# Altium schematic symbol library Schlib1.SchLib: 64 symbols
Pins are listed as number, name and electrical type; pins without a type are passive.

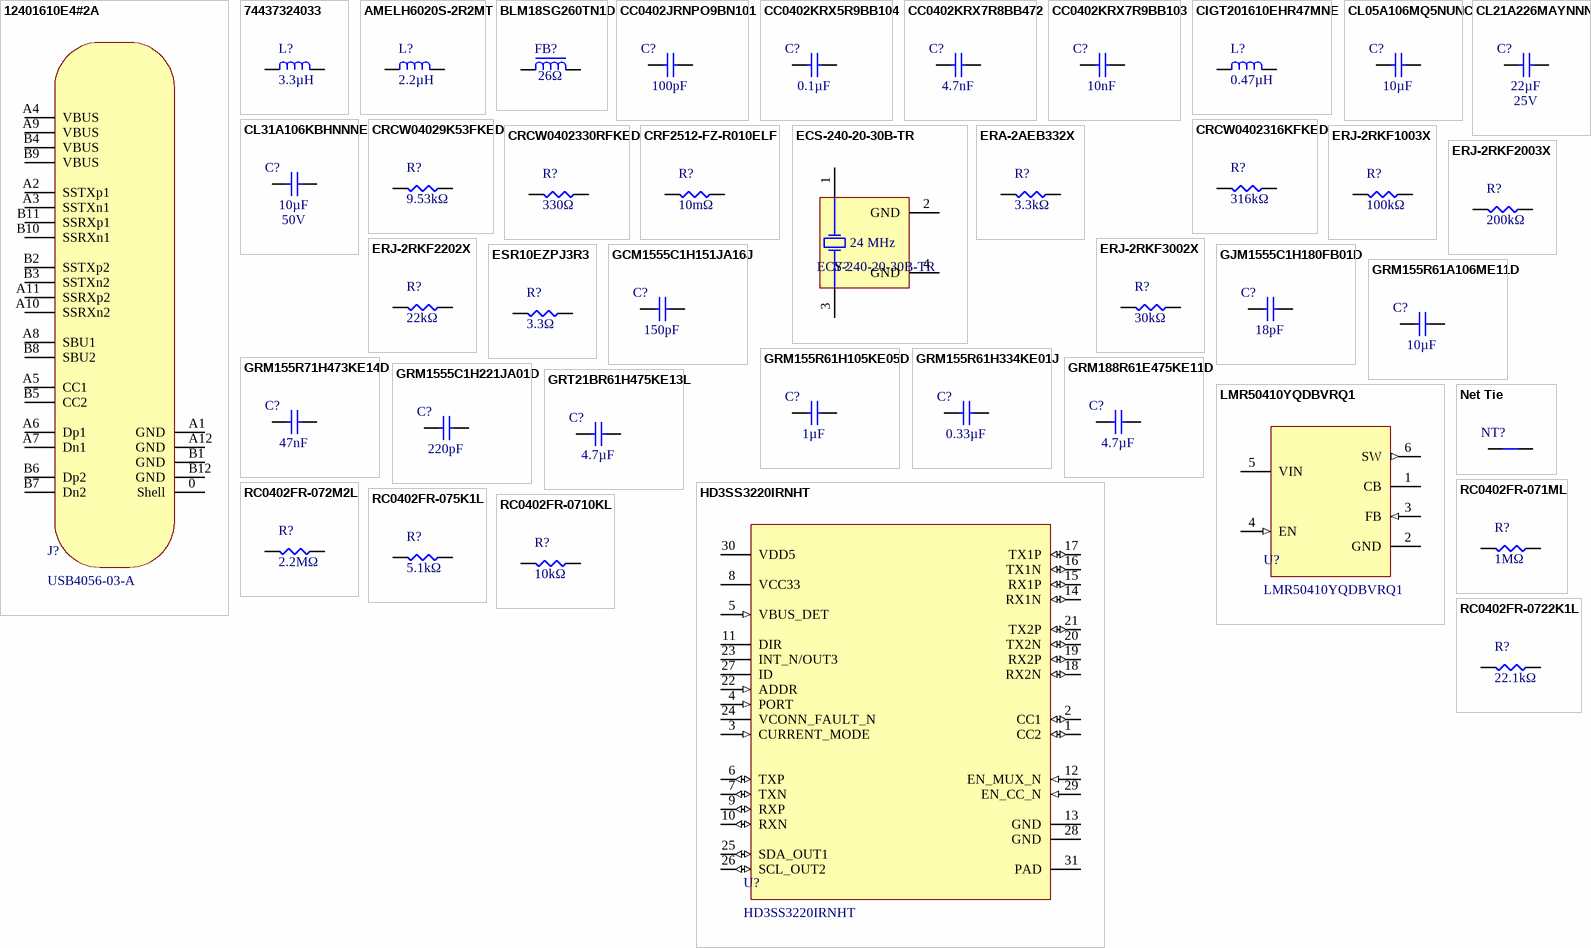
[diagram p0: symbols 12401610E4#2A to RC0402FR-0722K1L]

## 12401610E4#2A
designator J?, comment USB4056-03-A
USB-C (USB TYPE-C) USB 3.2 Gen 2 (USB 3.1 Gen 2, Superspeed + (USB 3.1)) Receptacle Connector 24 Position Surface Mount, Right Angle; Through Hole; Manufacturer: Amphenol ICC (Commercial Products); Manufacturer Product Number: 12401610E4#2A; Voltage: 100VDC; Supplier: DigiKey; Supplier Part Number: 12401610E4#2ACT-ND; Datasheet: https://cdn.amphenol-cs.com/media/wysiwyg/files/drawing/c12401610_c.pdf; Standards: USB 3.2 Gen 2; Operating Temperature: -40°C ~ 85°C
footprint 12401610E42A_AMP (Female USB-C Header)
pins: 0 Shell "USB-C Connector Shell (GND)", A1 GND, A2 SSTXp1, A3 SSTXn1, A4 VBUS, A5 CC1, A6 Dp1, A7 Dn1, A8 SBU1, A9 VBUS, A10 SSRXn2, A11 SSRXp2, A12 GND, B1 GND, B2 SSTXp2, B3 SSTXn2, B4 VBUS, B5 CC2, B6 Dp2, B7 Dn2, B8 SBU2, B9 VBUS, B10 SSRXn1, B11 SSRXp1, B12 GND

## 74437324033
designator L?  value 3.3µH  (hidden comment: 74437324033)
3.3 µH Shielded Molded Inductor 2.5 A 76mOhm Max 2-SMD; Manufacturer 1: Würth Elektronik; Current Rating: 2.5A; Current - Saturation (Isat): 5.45A; Manufacturer Part Number 1: 74437324033; Supplier Part Number 1: 732-3343-1-ND; Supplier 1: Digi-Key
footprint 2-SMD
pins: 1, 2

## AMELH6020S-2R2MT
designator L?  value 2.2µH  (hidden comment: AMELH6020S-2R2MT)
2.2 µH Shielded Molded Inductor 11.5 A 14.4mOhm Max Nonstandard; Manufacturer 1: Abracon LLC; Current Rating: 11.5A; Current - Saturation (Isat): 10A; Manufacturer Part Number 1: AMELH6020S-2R2MT; Supplier Part Number 1: 535-AMELH6020S-2R2MTCT-ND; Supplier 1: Digi-Key
footprint AMELH6020S-2R2MT
pins: 1, 2

## BLM18SG260TN1D
designator FB?  value 26Ω  (hidden comment: BLM18SG260TN1D)
26 Ohms @ 100 MHz 1 Power Line Ferrite Bead 0603 (1608 Metric) 6A 7mOhm; Manufacturer 1: Murata Electronics; Manufacturer Part Number 1: BLM18SG260TN1D; Supplier Part Number 1: 490-3995-1-ND; Supplier 1: Digi-Key; Current Rating: 6A
footprint BLM18SG260TN1D
pins: 1, 2

## CC0402JRNPO9BN101
designator C?  value 100pF  (hidden comment: CC0402JRNPO9BN101)
100 pF ±5% 50V Ceramic Capacitor C0G, NP0 0402 (1005 Metric); Temperature Coefficient: C0G, NP0; Package: 0402 (1005 Metric); Voltage: 50V
footprint CAP0402 (Chip Capacitor, Body 1x0.5mm, Height 0.35mm, IPC Medium Density)
pins: 1, 2

## CC0402KRX5R9BB104
designator C?  value 0.1µF  (hidden comment: CC0402KRX5R9BB104)
0.1 µF ±10% 50V Ceramic Capacitor X5R 0402 (1005 Metric); Temperature Coefficient: X5R; Package: 0402 (1005 Metric); Voltage: 50V
footprint CAP0402 (Chip Capacitor, Body 1x0.5mm, Height 0.35mm, IPC Medium Density)
pins: 1, 2

## CC0402KRX7R8BB472
designator C?  value 4.7nF  (hidden comment: CC0402KRX7R8BB472)
4700 pF ±10% 25V Ceramic Capacitor X7R 0402 (1005 Metric); Temperature Coefficient: X7R; Package: 0402 (1005 Metric); Voltage: 25V
footprint CAP0402 (Chip Capacitor, Body 1x0.5mm, Height 0.35mm, IPC Medium Density)
pins: 1, 2

## CC0402KRX7R9BB103
designator C?  value 10nF  (hidden comment: CC0402KRX7R9BB103)
10000 pF ±10% 50V Ceramic Capacitor X7R 0402 (1005 Metric); Temperature Coefficient: X7R; Package: 0402 (1005 Metric); Voltage: 50V
footprint CAP0402 (Chip Capacitor, Body 1x0.5mm, Height 0.35mm, IPC Medium Density)
pins: 1, 2

## CIGT201610EHR47MNE
designator L?, comment value 0.47µH  (hidden comment: 74437324033)
470 nH Shielded Thin Film Inductor 4.8 A 22mOhm Max 0806 (2016 Metric); Manufacturer 1: Samsung Electro-Mechanics; Manufacturer Part Number 1: CIGT201610EHR47MNE; Current Rating: 4.8A; Current - Saturation (Isat): 5.9A; Supplier Part Number 1: 1276-6902-1-ND; Supplier 1: Digi-Key
footprint IND0806
pins: 1, 2

## CL05A106MQ5NUNC
designator C?  value 10µF  (hidden comment: CL05A106MQ5NUNC)
10 µF ±20% 6.3V Ceramic Capacitor X5R 0402 (1005 Metric); Temperature Coefficient: C0G, NP0; Package: 0402 (1005 Metric); Voltage: 6.3V
footprint CAP0402 (Chip Capacitor, Body 1x0.5mm, Height 0.35mm, IPC Medium Density)
pins: 1, 2

## CL21A226MAYNNNE
designator C?  value 22µF  Voltage: 25V  (hidden comment: CL21A226MAYNNNE)
22 µF ±20% 25V Ceramic Capacitor X5R 0805 (2012 Metric); Temperature Coefficient: X5R; Package: 0805 (2012 Metric)
footprint CAP0805 (Chip Capacitor, Body 2.0x1.2mm, Height 0.45mm, IPC Medium Density)
pins: 1, 2

## CL31A106KBHNNNE
designator C?  value 10µF  Voltage: 50V  (hidden comment: CL31A106KBHNNNE)
10 µF ±10% 50V Ceramic Capacitor X5R 1206 (3216 Metric); Temperature Coefficient: X5R; Package: 1206 (3216 Metric)
footprint CAP1206 (Chip Capacitor, Body 3.2x1.6mm, Height 0.55mm, IPC Medium Density)
pins: 1, 2

## CRCW04029K53FKED
designator R?  value 9.53kΩ  (hidden comment: CRCW04029K53FKED)
9.53 kOhms ±1% 0.1W, 1/10W Chip Resistor 0402 (1005 Metric) Automotive AEC-Q200 Thick Film; Manufacturer 1: Vishay Dale; Manufacturer Part Number 1: CRCW04029K53FKED; Supplier Part Number 1: 541-9.53KLCT-ND; Supplier 1: Digi-Key; Power Rating: 1/10W
footprint RES0402 (Chip Resistor, Body 1x0.5mm, IPC Medium Density)
pins: 1, 2

## CRCW0402316KFKED
designator R?  value 316kΩ  (hidden comment: CRCW0402316KFKED)
316 kOhms ±1% 0.1W, 1/10W Chip Resistor 0402 (1005 Metric) Automotive AEC-Q200 Thick Film; Manufacturer 1: Vishay Dale; Manufacturer Part Number 1: CRCW0402316KFKED; Supplier Part Number 1: 541-316KLCT-ND; Supplier 1: Digi-Key; Power Rating: 1/10W
footprint RES0402 (Chip Resistor, Body 1x0.5mm, IPC Medium Density)
pins: 1, 2

## CRCW0402330RFKED
designator R?  value 330Ω  (hidden comment: CRCW0402330RFKED)
330 Ohms ±1% 0.1W, 1/10W Chip Resistor 0402 (1005 Metric) Automotive AEC-Q200 Thick Film; Manufacturer 1: Vishay Dale; Manufacturer Part Number 1: CRCW0402330RFKED; Supplier Part Number 1: 541-330LCT-ND; Supplier 1: Digi-Key; Power Rating: 1/10W
footprint RES0402 (Chip Resistor, Body 1x0.5mm, IPC Medium Density)
pins: 1, 2

## CRF2512-FZ-R010ELF
designator R?  value 10mΩ  (hidden comment: CRF2512-FZ-R010ELF)
10 mOhms ±1% 2W Chip Resistor 2512 (6332 Metric) Automotive AEC-Q200, Current Sense, Moisture Resistant Metal Element; Manufacturer 1: Bourns Inc.; Manufacturer Part Number 1: CRF2512-FZ-R010ELF; Supplier Part Number 1: CRF2512-FZ-R010ELFCT-ND; Supplier 1: Digi-Key; Power Rating: 2W
footprint RES2512
pins: 1, 2

## ECS-240-20-30B-TR
designator Y?  value 24 MHz
24 MHz ±30ppm Crystal 20pF 30 Ohms 4-SMD, No Lead; Manufacturer 1: ECS Inc.; ESR (Equivalent Series Resistance): 30Ω; Manufacturer Part Number 1: ECS-240-20-30B-TR; Supplier Part Number 1: XC1122CT-ND; Supplier 1: Digi-Key; Load Capacitance: 20pF
footprint ECS-240-20-30B-TR
pins: 1, 2 GND, 3, 4 GND

## ERA-2AEB332X
designator R?  value 3.3kΩ  (hidden comment: ERA-2AEB332X)
3.3 kOhms ±0.1% 0.063W, 1/16W Chip Resistor 0402 (1005 Metric) Automotive AEC-Q200 Thin Film; Manufacturer 1: Panasonic Electronic Components; Manufacturer Part Number 1: ERA-2AEB332X; Supplier Part Number 1: P3.3KDCCT-ND; Supplier 1: Digi-Key; Power Rating: 1/16W
footprint RES0402 (Chip Resistor, Body 1x0.5mm, IPC Medium Density)
pins: 1, 2

## ERJ-2RKF1003X
designator R?  value 100kΩ  (hidden comment: ERJ-2RKF1003X)
100 kOhms ±1% 0.1W, 1/10W Chip Resistor 0402 (1005 Metric) Automotive AEC-Q200 Thick Film; Manufacturer 1: Panasonic Electronic Components; Manufacturer Part Number 1: ERJ-2RKF1003X; Supplier Part Number 1: P100KLCT-ND; Supplier 1: Digi-Key; Power Rating: 1/10W
footprint RES0402 (Chip Resistor, Body 1x0.5mm, IPC Medium Density)
pins: 1, 2

## ERJ-2RKF2003X
designator R?, comment value 200kΩ  (hidden comment: ERJ-2RKF3002X)
200 kOhms ±1% 0.1W, 1/10W Chip Resistor 0402 (1005 Metric) Automotive AEC-Q200 Thick Film; Manufacturer 1: Panasonic Electronic Components; Manufacturer Part Number 1: ERJ-2RKF2003X; Supplier Part Number 1: P200KLCT-ND; Supplier 1: Digi-Key; Power Rating: 1/10W
footprint RES0402 (Chip Resistor, Body 1x0.5mm, IPC Medium Density)
pins: 1, 2

## ERJ-2RKF2202X
designator R?  value 22kΩ  (hidden comment: ERJ-2RKF2202X)
22 kOhms ±1% 0.1W, 1/10W Chip Resistor 0402 (1005 Metric) Automotive AEC-Q200 Thick Film; Manufacturer 1: Panasonic Electronic Components; Manufacturer Part Number 1: ERJ-2RKF2202X; Supplier Part Number 1: P22.0KLCT-ND; Supplier 1: Digi-Key; Power Rating: 1/10W
footprint RES0402 (Chip Resistor, Body 1x0.5mm, IPC Medium Density)
pins: 1, 2

## ERJ-2RKF3002X
designator R?  value 30kΩ  (hidden comment: ERJ-2RKF3002X)
30 kOhms ±1% 0.1W, 1/10W Chip Resistor 0402 (1005 Metric) Automotive AEC-Q200 Thick Film; Manufacturer 1: Panasonic Electronic Components; Manufacturer Part Number 1: ERJ-2RKF3002X; Supplier Part Number 1: P30.0KLCT-ND; Supplier 1: Digi-Key; Power Rating: 1/10W
footprint RES0402 (Chip Resistor, Body 1x0.5mm, IPC Medium Density)
pins: 1, 2

## ESR10EZPJ3R3
designator R?  value 3.3Ω  (hidden comment: ESR10EZPJ3R3)
3.3 Ohms ±5% 0.5W, 1/2W Chip Resistor 0805 (2012 Metric) Automotive AEC-Q200, Pulse Withstanding Thick Film; Manufacturer 1: Rohm Semiconductor; Manufacturer Part Number 1: ESR10EZPJ3R3; Supplier Part Number 1: RHM3.3KCT-ND; Supplier 1: Digi-Key; Power Rating: 1/2W
footprint RES0402 (Chip Resistor, Body 1x0.5mm, IPC Medium Density)
pins: 1, 2

## GCM1555C1H151JA16J
designator C?  value 150pF  (hidden comment: GCM1555C1H151JA16J)
150 pF ±5% 50V Ceramic Capacitor C0G, NP0 0402 (1005 Metric); Temperature Coefficient: C0G, NP0; Package: 0402 (1005 Metric); Voltage: 50V
footprint CAP0402 (Chip Capacitor, Body 1x0.5mm, Height 0.35mm, IPC Medium Density)
pins: 1, 2

## GJM1555C1H180FB01D
designator C?  value 18pF  (hidden comment: GJM1555C1H180FB01D)
18 pF ±1% 50V Ceramic Capacitor C0G, NP0 0402 (1005 Metric); Temperature Coefficient: C0G, NP0; Package: 0402 (1005 Metric); Voltage: 50V
footprint CAP0402 (Chip Capacitor, Body 1x0.5mm, Height 0.35mm, IPC Medium Density)
pins: 1, 2

## GRM155R61A106ME11D
designator C?, comment value 10µF  (hidden comment: GRM1555C1H221JA01D)
10 µF ±20% 10V Ceramic Capacitor X5R 0402 (1005 Metric); Temperature Coefficient: X5R; Package: 0402 (1005 Metric); Voltage: 10V
footprint CAP0402 (Chip Capacitor, Body 1x0.5mm, Height 0.35mm, IPC Medium Density)
pins: 1, 2

## GRM155R61H105KE05D
designator C?  value 1µF  (hidden comment: GRM155R61H105KE05D)
1 µF ±10% 50V Ceramic Capacitor X5R 0402 (1005 Metric); Temperature Coefficient: X5R; Package: 0402 (1005 Metric); Voltage: 50V
footprint CAP0402 (Chip Capacitor, Body 1x0.5mm, Height 0.35mm, IPC Medium Density)
pins: 1, 2

## GRM155R61H334KE01J
designator C?  value 0.33µF  (hidden comment: GRM155R61H334KE01J)
0.33 µF ±10% 50V Ceramic Capacitor X5R 0402 (1005 Metric); Temperature Coefficient: X5R; Package: 0402 (1005 Metric); Voltage: 50V
footprint CAP0402 (Chip Capacitor, Body 1x0.5mm, Height 0.35mm, IPC Medium Density)
pins: 1, 2

## GRM155R71H473KE14D
designator C?  value 47nF  (hidden comment: GRM155R71H473KE14D)
0.047 µF ±10% 50V Ceramic Capacitor X7R 0402 (1005 Metric); Temperature Coefficient: X7R; Package: 0402 (1005 Metric); Voltage: 50V
footprint CAP0402 (Chip Capacitor, Body 1x0.5mm, Height 0.35mm, IPC Medium Density)
pins: 1, 2

## GRM188R61E475KE11D
designator C?, comment value 4.7µF  (hidden comment: GRT21BR61H475KE13L)
4.7 µF ±10% 25V Ceramic Capacitor X5R 0603 (1608 Metric); Temperature Coefficient: X5R; Package: 0603 (1608 Metric); Voltage: 25V
footprint CAP0603
pins: 1, 2

## GRM1555C1H221JA01D
designator C?  value 220pF  (hidden comment: GRM1555C1H221JA01D)
220 pF ±5% 50V Ceramic Capacitor C0G, NP0 0402 (1005 Metric); Temperature Coefficient: C0G, NP0; Package: 0402 (1005 Metric); Voltage: 50V
footprint CAP0402 (Chip Capacitor, Body 1x0.5mm, Height 0.35mm, IPC Medium Density)
pins: 1, 2

## GRT21BR61H475KE13L
designator C?  value 4.7µF  (hidden comment: GRT21BR61H475KE13L)
4.7 µF ±10% 50V Ceramic Capacitor X5R 0805 (2012 Metric); Temperature Coefficient: X5R; Package: 0805 (2012 Metric); Voltage: 50V
footprint CAP0805 (Chip Capacitor, Body 2.0x1.2mm, Height 0.45mm, IPC Medium Density)
pins: 1, 2

## HD3SS3220IRNHT
designator U?
USB, Type-C Controller PMIC 30-WQFN (4.5x2.5); Manufacturer: Texas Instruments; Manufacturer Product Number: HD3SS3220IRNHT; Supplier: DigiKey; Supplier Part Number: 296-43694-1-ND; Datasheet: https://www.ti.com/lit/ds/symlink/hd3ss3220.pdf?HQS=dis-dk-null-digikeymode-dsf-pf-null-wwe&ts=1772376564629&ref_url=https%253A%252F%252Fwww.ti.com%252Fgeneral%252Fdocs%252Fsuppproductinfo.tsp%253FdistId%253D10%2526gotoUrl%253Dhttps%253A%252F%252Fwww.ti.com%252Flit%252Fgpn%252Fhd3ss3220; Operating Temperature: -40°C ~ 85°C
footprint 30-WFQFN Exposed Pad
pins: 1 CC2 (io), 2 CC1 (io), 3 CURRENT_MODE (in), 4 PORT (in), 5 VBUS_DET (in), 6 TXP (io), 7 TXN (io), 8 VCC33 (power), 9 RXP (io), 10 RXN (io), 11 DIR (oc), 12 EN_MUX_N (in), 13 GND (power), 14 RX1N (io), 15 RX1P (io), 16 TX1N (io), 17 TX1P (io), 18 RX2N (io), 19 RX2P (io), 20 TX2N (io), 21 TX2P (io), 22 ADDR (in), 23 INT_N/OUT3 (oc), 24 VCONN_FAULT_N (oc), 25 SDA_OUT1 (io), 26 SCL_OUT2 (io), 27 ID (oc), 28 GND (power), 29 EN_CC_N (in), 30 VDD5 (power), 31 PAD (power)

## LMR50410YQDBVRQ1
designator U?
Buck Switching Regulator IC Positive Adjustable 1V 1 Output 1A SOT-23-6; Manufacturer: Texas Instruments; Manufacturer Product Number: LMR50410YQDBVRQ1; Supplier: DigiKey; Supplier Part Number: 296-LMR50410YQDBVRQ1CT-ND; Datasheet: https://www.ti.com/lit/ds/symlink/lmr50410-q1.pdf?ts=1770259846623&ref_url=https%253A%252F%252Fwww.ti.com%252Fproduct%252FLMR50410-Q1%252Fpart-details%252FLMR50410YQDBVRQ1; Operating Temperature: -40°C ~ 150°C
footprint SOT-23-6
pins: 1 CB, 2 GND, 3 FB (in), 4 EN (in), 5 VIN, 6 SW (out)

## Net Tie
designator NT?  (value not drawn)
footprint Net Tie
pins: 1, 2

## RC0402FR-071ML
designator R?  value 1MΩ  (hidden comment: RC0402FR-071ML)
1 MOhms ±1% 0.063W, 1/16W Chip Resistor 0402 (1005 Metric) Moisture Resistant Thick Film; Manufacturer 1: YAGEO; Manufacturer Part Number 1: RC0402FR-071ML; Supplier Part Number 1: 311-1.00MLRCT-ND; Supplier 1: Digi-Key; Power Rating: 1/16W
footprint RES0402 (Chip Resistor, Body 1x0.5mm, IPC Medium Density)
pins: 1, 2

## RC0402FR-072M2L
designator R?  value 2.2MΩ  (hidden comment: RC0402FR-072M2L)
2.2 MOhms ±1% 0.063W, 1/16W Chip Resistor 0402 (1005 Metric) Moisture Resistant Thick Film; Manufacturer 1: YAGEO; Manufacturer Part Number 1: RC0402FR-072M2L; Supplier Part Number 1: 13-RC0402FR-072M2LCT-ND; Supplier 1: Digi-Key; Power Rating: 1/16W
footprint RES0402 (Chip Resistor, Body 1x0.5mm, IPC Medium Density)
pins: 1, 2

## RC0402FR-075K1L
designator R?  value 5.1kΩ  (hidden comment: RC0402FR-075K1L)
5.1 kOhms ±1% 0.063W, 1/16W Chip Resistor 0402 (1005 Metric) Moisture Resistant Thick Film; Manufacturer 1: YAGEO; Manufacturer Part Number 1: RC0402FR-075K1L; Supplier Part Number 1: 311-5.10KLRCT-ND; Supplier 1: Digi-Key; Power Rating: 1/16W
footprint RES0402 (Chip Resistor, Body 1x0.5mm, IPC Medium Density)
pins: 1, 2

## RC0402FR-0710KL
designator R?  value 10kΩ  (hidden comment: RC0402FR-0710KL)
10 kOhms ±1% 0.063W, 1/16W Chip Resistor 0402 (1005 Metric) Moisture Resistant Thick Film; Manufacturer 1: YAGEO; Manufacturer Part Number 1: RC0402FR-0710KL; Supplier Part Number 1: 311-10.0KLRCT-ND; Supplier 1: Digi-Key; Power Rating: 1/16W
footprint RES0402 (Chip Resistor, Body 1x0.5mm, IPC Medium Density)
pins: 1, 2

## RC0402FR-0722K1L
designator R?  value 22.1kΩ  (hidden comment: RC0402FR-0722K1L)
22.1 kOhms ±1% 0.063W, 1/16W Chip Resistor 0402 (1005 Metric) Moisture Resistant Thick Film; Manufacturer 1: YAGEO; Manufacturer Part Number 1: RC0402FR-0722K1L; Supplier Part Number 1: 311-22.1KLRCT-ND; Supplier 1: Digi-Key; Power Rating: 1/16W
footprint RES0402 (Chip Resistor, Body 1x0.5mm, IPC Medium Density)
pins: 1, 2

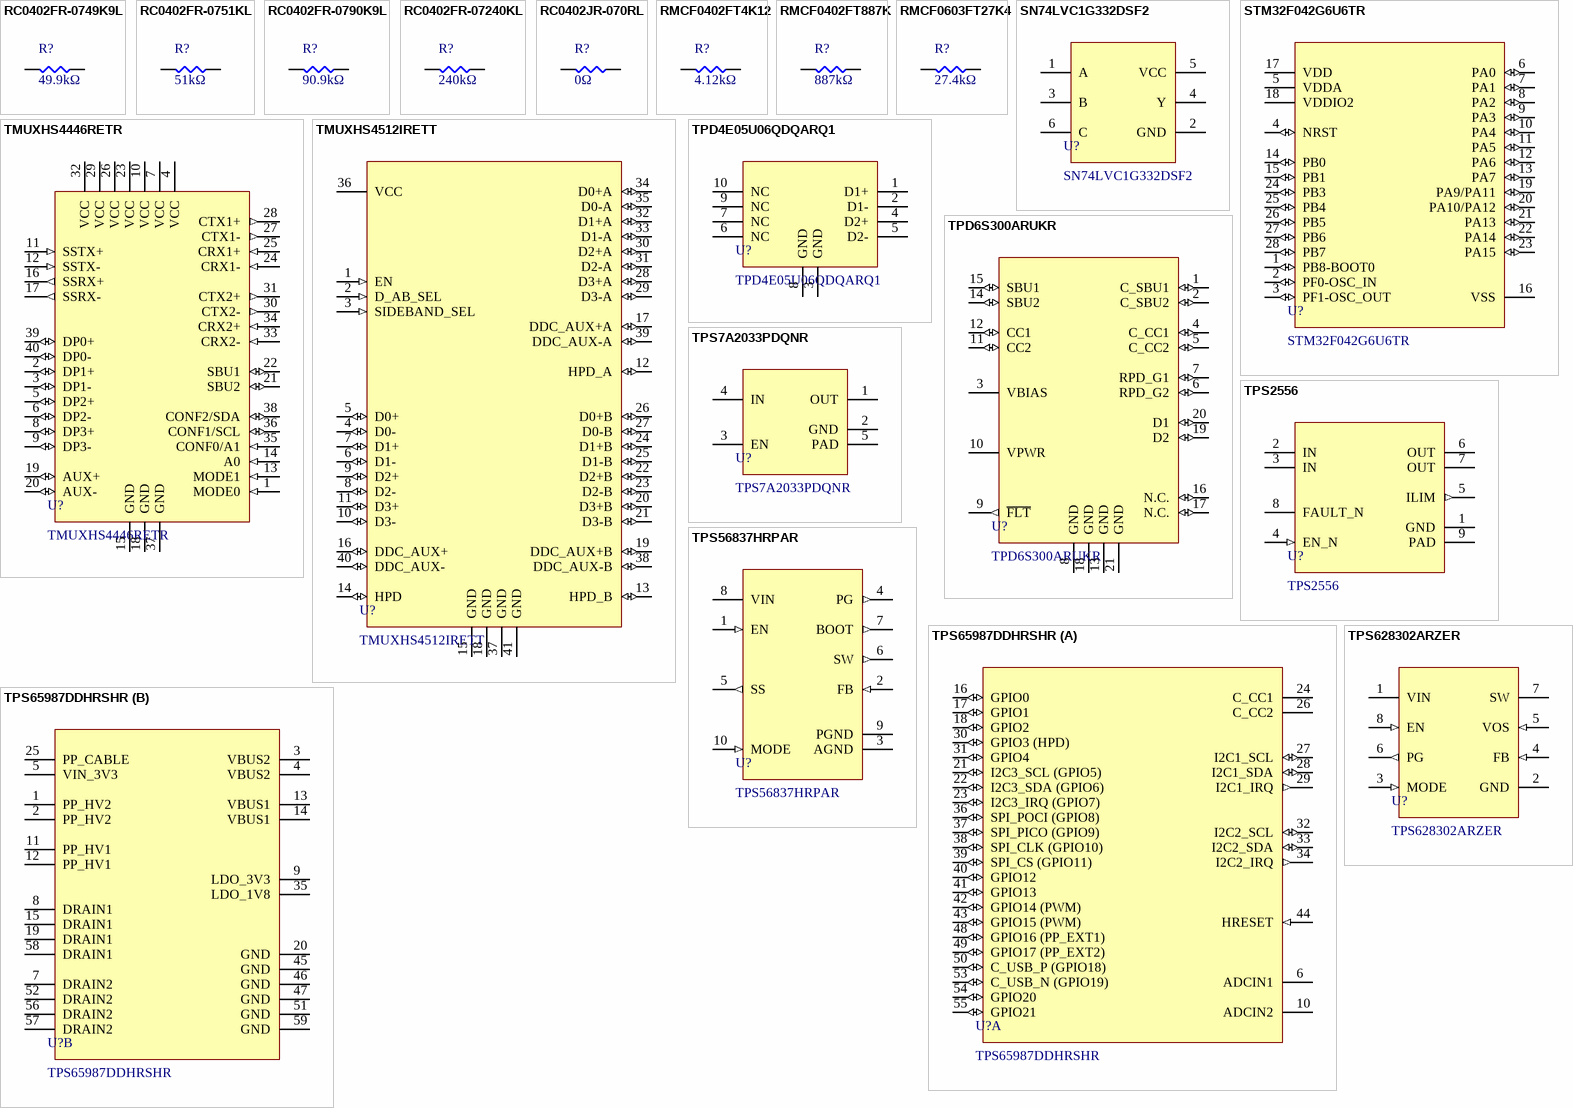
[diagram p1: symbols RC0402FR-0749K9L to TPS628302ARZER]

## RC0402FR-0749K9L
designator R?  value 49.9kΩ  (hidden comment: RC0402FR-0749K9L)
49.9 kOhms ±1% 0.063W, 1/16W Chip Resistor 0402 (1005 Metric) Moisture Resistant Thick Film; Manufacturer 1: YAGEO; Manufacturer Part Number 1: RC0402FR-0749K9L; Supplier Part Number 1: 311-49.9KLRCT-ND; Supplier 1: Digi-Key; Power Rating: 1/16W
footprint RES0402 (Chip Resistor, Body 1x0.5mm, IPC Medium Density)
pins: 1, 2

## RC0402FR-0751KL
designator R?  value 51kΩ  (hidden comment: RC0402FR-0751KL)
51 kOhms ±1% 0.063W, 1/16W Chip Resistor 0402 (1005 Metric) Moisture Resistant Thick Film; Manufacturer 1: YAGEO; Manufacturer Part Number 1: RC0402FR-0751KL; Supplier Part Number 1: 311-51.0KLRCT-ND; Supplier 1: Digi-Key; Power Rating: 1/16W
footprint RES0402 (Chip Resistor, Body 1x0.5mm, IPC Medium Density)
pins: 1, 2

## RC0402FR-0790K9L
designator R?  value 90.9kΩ  (hidden comment: RC0402FR-0790K9L)
90.9 kOhms ±1% 0.063W, 1/16W Chip Resistor 0402 (1005 Metric) Moisture Resistant Thick Film; Manufacturer 1: YAGEO; Manufacturer Part Number 1: RC0402FR-0751KL; Supplier Part Number 1: 311-51.0KLRCT-ND; Supplier 1: Digi-Key; Power Rating: 1/16W
footprint RES0402 (Chip Resistor, Body 1x0.5mm, IPC Medium Density)
pins: 1, 2

## RC0402FR-07240KL
designator R?, comment value 240kΩ  (hidden comment: RC0402FR-0790K9L)
240 kOhms ±1% 0.063W, 1/16W Chip Resistor 0402 (1005 Metric) Moisture Resistant Thick Film; Manufacturer 1: YAGEO; Manufacturer Part Number 1: RC0402FR-07240KL; Supplier Part Number 1: 311-240KLRCT-ND; Supplier 1: Digi-Key; Power Rating: 1/16W
footprint RES0402 (Chip Resistor, Body 1x0.5mm, IPC Medium Density)
pins: 1, 2

## RC0402JR-070RL
designator R?  value 0Ω  (hidden comment: RC0402JR-070RL)
0 Ohms Jumper Chip Resistor 0402 (1005 Metric) Moisture Resistant Thick Film; Manufacturer 1: YAGEO; Power Rating: 1/16W; Manufacturer Part Number 1: RC0402JR-070RL; Supplier Part Number 1: 311-0.0JRCT-ND; Supplier 1: Digi-Key
footprint RES0402 (Chip Resistor, Body 1x0.5mm, IPC Medium Density)
pins: 1, 2

## RMCF0402FT4K12
designator R?  value 4.12kΩ  (hidden comment: RMCF0402FT4K12)
4.12 kOhms ±1% 0.063W, 1/16W Chip Resistor 0402 (1005 Metric) Automotive AEC-Q200 Thick Film; Manufacturer 1: Stackpole Electronics Inc; Manufacturer Part Number 1: RMCF0402FT4K12; Supplier Part Number 1: RMCF0402FT4K12CT-ND; Supplier 1: Digi-Key; Power Rating: 1/16W
footprint RES0402 (Chip Resistor, Body 1x0.5mm, IPC Medium Density)
pins: 1, 2

## RMCF0402FT887K
designator R?  value 887kΩ  (hidden comment: RMCF0402FT887K)
887 kOhms ±1% 0.063W, 1/16W Chip Resistor 0402 (1005 Metric) Automotive AEC-Q200 Thick Film; Manufacturer 1: Stackpole Electronics Inc; Manufacturer Part Number 1: RMCF0402FT887K; Supplier Part Number 1: RMCF0402FT887KCT-ND; Supplier 1: Digi-Key; Power Rating: 1/16W
footprint RES0402 (Chip Resistor, Body 1x0.5mm, IPC Medium Density)
pins: 1, 2

## RMCF0603FT27K4
designator R?  value 27.4kΩ  (hidden comment: RMCF0603FT27K4)
27.4 kOhms ±1% 0.1W, 1/10W Chip Resistor 0603 (1608 Metric) Automotive AEC-Q200 Thick Film; Manufacturer 1: Stackpole Electronics Inc; Manufacturer Part Number 1: RMCF0603FT27K4; Supplier Part Number 1: RMCF0603FT27K4CT-ND; Supplier 1: Digi-Key; Power Rating: 1/10W
footprint RES0402 (Chip Resistor, Body 1x0.5mm, IPC Medium Density)
pins: 1, 2

## SN74LVC1G332DSF2
designator U?
OR Gate IC 1 Channel 6-SON (1x1); Manufacturer: Texas Instruments; Manufacturer Product Number: SN74LVC1G332DSF2; Supplier: DigiKey; Supplier Part Number: 296-SN74LVC1G332DSF2CT-ND; Datasheet: https://www.ti.com/lit/ds/symlink/sn74lvc1g332.pdf?ts=1769971090565&ref_url=https%253A%252F%252Fwww.ti.com%252Fproduct%252FSN74LVC1G332; Operating Temperature: -40°C ~ 125°C
footprint 6-XFDFN
pins: 1 A, 2 GND, 3 B, 4 Y, 5 VCC, 6 C

## STM32F042G6U6TR
designator U?
Mainstream Arm Cortex-M0 USB line MCU with 32 Kbytes of Flash memory, 48 MHz CPU, USB, CAN and CEC functions; Manufacturer_Name: STMicroelectronics; Copyright: Copyright (C) 2026 Ultra Librarian. All rights reserved.; Manufacturer_Part_Number: STM32F042G6U6TR; Datasheet: https://www.st.com/resource/en/datasheet/stm32f042c4.pdf; RefDes: RefDes; Type: Type
footprint UFQFPN28-4x4mm
pins: 1 PB8-BOOT0 (io), 2 PF0-OSC_IN (io), 3 PF1-OSC_OUT (io), 4 NRST (io), 5 VDDA (power), 6 PA0 (io), 7 PA1 (io), 8 PA2 (io), 9 PA3 (io), 10 PA4 (io), 11 PA5 (io), 12 PA6 (io), 13 PA7 (io), 14 PB0 (io), 15 PB1 (io), 16 VSS (power), 17 VDD (power), 18 VDDIO2 (power), 19 PA9/PA11 (io), 20 PA10/PA12 (io), 21 PA13 (io), 22 PA14 (io), 23 PA15 (io), 24 PB3 (io), 25 PB4 (io), 26 PB5 (io), 27 PB6 (io), 28 PB7 (io)

## TMUXHS4446RETR
designator U?
4 Circuit IC Switch 4:4 7Ohm (Typ) 40-WQFN (6x3); Manufacturer: Texas Instruments; Standards: USB 3.2 Gen 2, DP 2.1; Manufacturer Product Number: TMUXHS4446RETR; Supplier: DigiKey; Supplier Part Number: 296-TMUXHS4446RETRCT-ND; Datasheet: https://www.ti.com/lit/ds/symlink/tmuxhs4446.pdf?ts=1710887339890&ref_url=https%253A%252F%252Fwww.ti.com%252Fproduct%252FTMUXHS4446%253Fjktype%253Dhomepageproduct; Operating Temperature: -40°C ~ 85°C
footprint RET0040A
pins: 1 MODE0 (in), 2 DP1+ (io), 3 DP1- (io), 4 VCC, 5 DP2+ (io), 6 DP2- (io), 7 VCC, 8 DP3+ (io), 9 DP3- (io), 10 VCC, 11 SSTX+ (in), 12 SSTX- (in), 13 MODE1 (in), 14 A0 (in), 15 GND, 16 SSRX+ (out), 17 SSRX- (out), 18 GND, 19 AUX+ (io), 20 AUX- (io), 21 SBU2 (io), 22 SBU1 (io), 23 VCC, 24 CRX1- (in), 25 CRX1+ (in), 26 VCC, 27 CTX1- (out), 28 CTX1+ (out), 29 VCC, 30 CTX2- (out), 31 CTX2+ (out), 32 VCC, 33 CRX2- (in), 34 CRX2+ (in), 35 CONF0/A1 (in), 36 CONF1/SCL (io), 37 GND, 38 CONF2/SDA (io), 39 DP0+ (io), 40 DP0- (io)

## TMUXHS4512IRETT
designator U?
6 Circuit IC Switch 1:2, 2:1 160Ohm 40-WQFN (6x3); Manufacturer: Texas Instruments; Manufacturer Product Number: TMUXHS4512IRETT; Supplier: DigiKey; Supplier Part Number: 296-TMUXHS4512IRETTCT-ND; Datasheet: https://www.ti.com/lit/ds/symlink/tmuxhs4512.pdf?ts=1769995925849&ref_url=https%253A%252F%252Fwww.ti.com%252Fproduct%252FTMUXHS4512; Operating Temperature: -40°C ~ 125°C
footprint RET0040A
pins: 1 EN (in), 2 D_AB_SEL (in), 3 SIDEBAND_SEL (in), 4 D0- (io), 5 D0+ (io), 6 D1- (io), 7 D1+ (io), 8 D2- (io), 9 D2+ (io), 10 D3- (io), 11 D3+ (io), 12 HPD_A (io), 13 HPD_B (io), 14 HPD (io), 15 GND, 16 DDC_AUX+ (io), 17 DDC_AUX+A (io), 18 GND, 19 DDC_AUX+B (io), 20 D3+B (io), 21 D3-B (io), 22 D2+B (io), 23 D2-B (io), 24 D1+B (io), 25 D1-B (io), 26 D0+B (io), 27 D0-B (io), 28 D3+A (io), 29 D3-A (io), 30 D2+A (io), 31 D2-A (io), 32 D1+A (io), 33 D1-A (io), 34 D0+A (io), 35 D0-A (io), 36 VCC, 37 GND, 38 DDC_AUX-B (io), 39 DDC_AUX-A (io), 40 DDC_AUX- (io), 41 GND "PowerPad"

## TPD4E05U06QDQARQ1
designator U?
14V Clamp 2.5A (8/20µs) Ipp Tvs Diode Surface Mount 10-USON (2.5x1); Manufacturer: Texas Instruments; Manufacturer Product Number: TPD4E05U06QDQARQ1; Supplier: DigiKey; Supplier Part Number: 296-40696-1-ND; Datasheet: https://www.ti.com/lit/ds/symlink/tpd4e05u06-q1.pdf?HQS=dis-dk-null-digikeymode-dsf-pf-null-wwe&ts=1772378762932&ref_url=https%253A%252F%252Fwww.ti.com%252Fgeneral%252Fdocs%252Fsuppproductinfo.tsp%253FdistId%253D10%2526gotoUrl%253Dhttps%253A%252F%252Fwww.ti.com%252Flit%252Fgpn%252Ftpd4e05u06-q1; Operating Temperature: -40°C ~ 125°C
footprint 10-UFDFN (10-USON (2.5x1))
pins: 1 D1+, 2 D1-, 3 GND, 4 D2+, 5 D2-, 6 NC, 7 NC, 8 GND, 9 NC, 10 NC

## TPD6S300ARUKR
designator U?
Overvoltage/Surge Protection IC 8V Internal Switch 20-WQFN (3x3); Manufacturer: Texas Instruments; Manufacturer Product Number: TPD6S300ARUKR; Supplier: DigiKey; Supplier Part Number: 296-51856-1-ND; Datasheet: https://www.ti.com/lit/ds/symlink/tpd6s300a.pdf?ts=1769365287609; Operating Temperature: -40°C ~ 85°C
footprint WQFN20_RUK_TEX
pins: 1 C_SBU1 (io), 2 C_SBU2 (io), 3 VBIAS, 4 C_CC1 (io), 5 C_CC2 (io), 6 RPD_G2 (io), 7 RPD_G1 (io), 8 GND, 9 ~{FLT} (out), 10 VPWR, 11 CC2 (io), 12 CC1 (io), 13 GND, 14 SBU2 (io), 15 SBU1 (io), 16 N.C. (io), 17 N.C. (io), 18 GND, 19 D2 (io), 20 D1 (io), 21 GND

## TPS7A2033PDQNR
designator U?
Linear Voltage Regulator IC Positive Fixed 1 Output 300mA 4-X2SON (1x1); Manufacturer: Texas Instruments; Manufacturer Product Number: TPS7A2033PDQNR; Supplier: DigiKey; Supplier Part Number: 296-TPS7A2033PDQNRCT-ND; Datasheet: https://www.ti.com/lit/ds/symlink/tps7a20.pdf?HQS=dis-dk-null-digikeymode-dsf-pf-null-wwe&ts=1772479101747; Operating Temperature: -40°C ~ 125°C
footprint 4-X2SON
pins: 1 OUT, 2 GND, 3 EN, 4 IN, 5 PAD

## TPS2556
designator U?
Power Switch/Driver 1:1 N-Channel 5A 8-SON (3x3); Manufacturer: Texas Instruments; Manufacturer Product Number: TPS2556DRBR; Supplier: DigiKey; Supplier Part Number: 296-39382-1-ND; Datasheet: https://www.ti.com/lit/ds/symlink/tps2557.pdf?ts=1772363913218; Operating Temperature: -40°C ~ 125°C
footprint 8-SON (3x3) (8-VDFN Exposed Pad)
pins: 1 GND, 2 IN, 3 IN, 4 EN_N (in), 5 ILIM (out), 6 OUT, 7 OUT, 8 FAULT_N, 9 PAD

## TPS56837HRPAR
designator U?
Buck Switching Regulator IC Positive Adjustable 4V 1 Output 8A 10-PowerVFQFN; Manufacturer: Texas Instruments; Manufacturer Product Number: TPS56837HRPAR; Supplier: DigiKey; Supplier Part Number: 296-TPS56837HRPARCT-ND; Datasheet: https://www.ti.com/lit/ds/symlink/tps56837h.pdf?ts=1769746400344&ref_url=https%253A%252F%252Fwww.ti.com%252Fproduct%252FTPS56837H%252Fpart-details%252FTPS56837HARPAR; Operating Temperature: -40°C ~ 150°C
pins: 1 EN (in), 2 FB (in), 3 AGND, 4 PG (out), 5 SS (out), 6 SW (out), 7 BOOT (out), 8 VIN, 9 PGND, 10 MODE (in)

## TPS65987DDHRSHR
designator U?
USB, Type-C Controller PMIC 56-VQFN (7x7); Manufacturer: Texas Instruments; Standards: USB4 PD 3.0; Manufacturer Product Number: TPS65987DDHRSHR; Supplier: DigiKey; Supplier Part Number: 296-52067-1-ND; Datasheet: https://www.ti.com/lit/ds/symlink/tps65987d.pdf?HQS=dis-dk-null-digikeymode-dsf-pf-null-wwe&ts=1769374030059; Operating Temperature: -10°C ~ 75°C
footprint 56-VQFN (7x7)
part A pins: 6 ADCIN1, 10 ADCIN2, 16 GPIO0 (io), 17 GPIO1 (io), 18 GPIO2 (io), 21 I2C3_SCL (GPIO5) (io), 22 I2C3_SDA (GPIO6) (io), 23 I2C3_IRQ (GPIO7) (io), 24 C_CC1, 26 C_CC2, 27 I2C1_SCL (io), 28 I2C1_SDA (io), 29 I2C1_IRQ (out), 30 GPIO3 (HPD) (io), 31 GPIO4 (io), 32 I2C2_SCL (io), 33 I2C2_SDA (io), 34 I2C2_IRQ (out), 36 SPI_POCI (GPIO8) (io), 37 SPI_PICO (GPIO9) (io), 38 SPI_CLK (GPIO10) (io), 39 SPI_CS (GPIO11) (io), 40 GPIO12 (io), 41 GPIO13 (io), 42 GPIO14 (PWM) (io), 43 GPIO15 (PWM) (io), 44 HRESET (in), 48 GPIO16 (PP_EXT1) (io), 49 GPIO17 (PP_EXT2) (io), 50 C_USB_P (GPIO18) (io), 53 C_USB_N (GPIO19) (io), 54 GPIO20 (io), 55 GPIO21 (io)
part B pins: 1 PP_HV2, 2 PP_HV2, 3 VBUS2, 4 VBUS2, 5 VIN_3V3, 7 DRAIN2, 8 DRAIN1, 9 LDO_3V3, 11 PP_HV1, 12 PP_HV1, 13 VBUS1, 14 VBUS1, 15 DRAIN1, 19 DRAIN1, 20 GND, 25 PP_CABLE, 35 LDO_1V8, 45 GND, 46 GND, 47 GND, 51 GND, 52 DRAIN2, 56 DRAIN2, 57 DRAIN2, 58 DRAIN1, 59 GND

## TPS628302ARZER
designator U?
Buck Switching Regulator IC Positive Adjustable 0.5V 1 Output 2A 8-WFDFN; Manufacturer: Texas Instruments; Manufacturer Product Number: TPS628302ARZER; Supplier: DigiKey; Supplier Part Number: 296-TPS628302ARZERCT-ND; Datasheet: https://www.ti.com/lit/ds/symlink/tps628302.pdf?ts=1772906536972&ref_url=https%253A%252F%252Fwww.ti.com%252Fproduct%252FTPS628302; Operating Temperature: -40°C ~ 125°C
footprint WQFN-HR8_RZE_TEX
pins: 1 VIN (power), 2 GND, 3 MODE (in), 4 FB (in), 5 VOS (in), 6 PG (out), 7 SW (power), 8 EN (in)

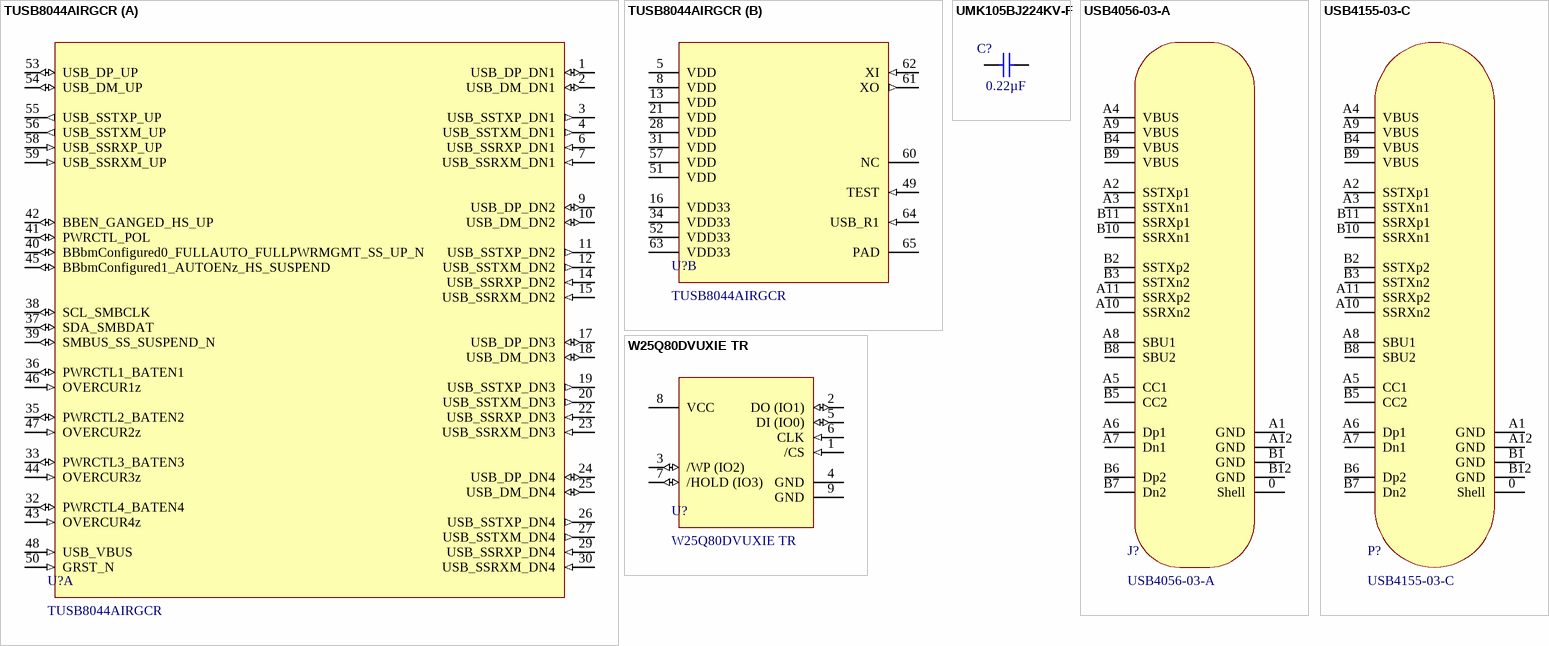
[diagram p2: symbols TUSB8044AIRGCR to W25Q80DVUXIE TR]

## TUSB8044AIRGCR
designator U?
Four-port USB 3.2 x1 Gen1 hub with USB billboard 64-VQFN -40 to 85; Manufacturer_Name: Texas Instruments; TYPE: TYPE; RefDes: RefDes; Copyright: Copyright (C) 2026 Ultra Librarian. All rights reserved.; Manufacturer_Part_Number: TUSB8044AIRGCR; Datasheet: https://www.ti.com/lit/gpn/tusb8044a
footprint RGC0064G
part A pins: 1 USB_DP_DN1 (io), 2 USB_DM_DN1 (io), 3 USB_SSTXP_DN1 (out), 4 USB_SSTXM_DN1 (out), 6 USB_SSRXP_DN1 (in), 7 USB_SSRXM_DN1 (in), 9 USB_DP_DN2 (io), 10 USB_DM_DN2 (io), 11 USB_SSTXP_DN2 (out), 12 USB_SSTXM_DN2 (out), 14 USB_SSRXP_DN2 (in), 15 USB_SSRXM_DN2 (in), 17 USB_DP_DN3 (io), 18 USB_DM_DN3 (io), 19 USB_SSTXP_DN3 (out), 20 USB_SSTXM_DN3 (out), 22 USB_SSRXP_DN3 (in), 23 USB_SSRXM_DN3 (in), 24 USB_DP_DN4 (io), 25 USB_DM_DN4 (io), 26 USB_SSTXP_DN4 (out), 27 USB_SSTXM_DN4 (out), 29 USB_SSRXP_DN4 (in), 30 USB_SSRXM_DN4 (in), 32 PWRCTL4_BATEN4 (io), 33 PWRCTL3_BATEN3 (io), 35 PWRCTL2_BATEN2 (io), 36 PWRCTL1_BATEN1 (io), 37 SDA_SMBDAT (io), 38 SCL_SMBCLK (io), 39 SMBUS_SS_SUSPEND_N (io), 40 BBbmConfigured0_FULLAUTO_FULLPWRMGMT_SS_UP_N (io), 41 PWRCTL_POL (io), 42 BBEN_GANGED_HS_UP (io), 43 OVERCUR4z (in), 44 OVERCUR3z (in), 45 BBbmConfigured1_AUTOENz_HS_SUSPEND (io), 46 OVERCUR1z (in), 47 OVERCUR2z (in), 48 USB_VBUS (in), 50 GRST_N (in), 53 USB_DP_UP (io), 54 USB_DM_UP (io), 55 USB_SSTXP_UP (out), 56 USB_SSTXM_UP (out), 58 USB_SSRXP_UP (in), 59 USB_SSRXM_UP (in)
part B pins: 5 VDD (power), 8 VDD (power), 13 VDD (power), 16 VDD33 (power), 21 VDD (power), 28 VDD (power), 31 VDD (power), 34 VDD33 (power), 49 TEST (in), 51 VDD (power), 52 VDD33 (power), 57 VDD (power), 60 NC, 61 XO (out), 62 XI (in), 63 VDD33 (power), 64 USB_R1 (in), 65 PAD

## UMK105BJ224KV-F
designator C?  value 0.22µF  (hidden comment: UMK105BJ224KV-F)
0.22 µF ±10% 50V Ceramic Capacitor X5R 0402 (1005 Metric); Temperature Coefficient: X5R; Package: 0402 (1005 Metric); Voltage: 50V
footprint CAP0402 (Chip Capacitor, Body 1x0.5mm, Height 0.35mm, IPC Medium Density)
pins: 1, 2

## USB4056-03-A
designator J?
USB-C (USB TYPE-C) USB 3.2 Gen 2 (USB 3.1 Gen 2, Superspeed + (USB 3.1)) Receptacle Connector 24 Position Surface Mount, Right Angle; Through Hole; Manufacturer: GCT; Voltage: 48VDC; Manufacturer Product Number: USB4056-03-A; Supplier: DigiKey; Supplier Part Number: 2073-USB4056-03-ACT-ND; Datasheet: https://gct.co/connector/usb4056; Standards: USB 3.2 Gen 2; Operating Temperature: -25°C ~ 85°C
footprint USB4056-03-A (USB C 3.2 REC, HORZ, HYBRID PCB)
pins: 0 Shell "USB-C Connector Shell (GND)", A1 GND, A2 SSTXp1, A3 SSTXn1, A4 VBUS, A5 CC1, A6 Dp1, A7 Dn1, A8 SBU1, A9 VBUS, A10 SSRXn2, A11 SSRXp2, A12 GND, B1 GND, B2 SSTXp2, B3 SSTXn2, B4 VBUS, B5 CC2, B6 Dp2, B7 Dn2, B8 SBU2, B9 VBUS, B10 SSRXn1, B11 SSRXp1, B12 GND

## USB4155-03-C
designator P?
USB-C (USB TYPE-C) USB 3.2 Gen 2 (USB 3.1 Gen 2, Superspeed + (USB 3.1)) Plug Connector 24 Position Board Edge, Surface Mount; Through Hole, Right Angle; Manufacturer: GCT; Manufacturer Product Number: USB4056-03-A; Voltage: 48VDC; Supplier: DigiKey; Supplier Part Number: 2073-USB4056-03-ACT-ND; Datasheet: https://gct.co/connector/usb4056; Standards: USB 3.2 Gen 2; Operating Temperature: -25°C ~ 85°C
footprint USB4155-03-C
pins: 0 Shell "USB-C Connector Shell (GND)", A1 GND, A2 SSTXp1, A3 SSTXn1, A4 VBUS, A5 CC1, A6 Dp1, A7 Dn1, A8 SBU1, A9 VBUS, A10 SSRXn2, A11 SSRXp2, A12 GND, B1 GND, B2 SSTXp2, B3 SSTXn2, B4 VBUS, B5 CC2, B6 Dp2, B7 Dn2, B8 SBU2, B9 VBUS, B10 SSRXn1, B11 SSRXp1, B12 GND

## W25Q80DVUXIE TR
designator U?
FLASH - NOR Memory IC 8Mbit SPI - Quad I/O 104 MHz 8-USON (2x3); Manufacturer: Winbond Electronics; Manufacturer Product Number: W25Q80DVUXIE TR; Supplier: DigiKey; Supplier Part Number: 256-W25Q80DVUXIETRCT-ND; Datasheet: https://www.winbond.com/resource-files/w25q80dv%20dl_revh_10022015.pdf; Standards: SPI - Quad I/O; Operating Temperature: -40°C ~ 85°C
footprint USON_3X2_WIN
pins: 1 /CS (in), 2 DO (IO1) (io), 3 /WP (IO2) (io), 4 GND, 5 DI (IO0) (io), 6 CLK (in), 7 /HOLD (IO3) (io), 8 VCC, 9 GND